# Altium schematic symbol library HE3621A0540.SchLib: 1 symbol
Pins are listed as number, name and electrical type; pins without a type are passive.

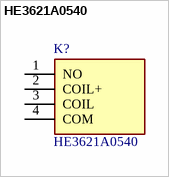
[diagram p0: symbol HE3621A0540]

## HE3621A0540
designator K?
Reed Relay 5VDC 500Ohm 0.5A SPST-NO(20.2x6.05x7.87)mm THT Dry; Manufacturer_Name: LITTELFUSE; Geometry.Height: 7.87mm; Manufacturer_Part_Number: HE3621A0540; Mouser Part Number: 934-HE3621A0540; Mouser Price/Stock: https://www.mouser.co.uk/ProductDetail/Littelfuse/HE3621A0540?qs=X8LBAgEWIKIUBLwFF6DU2A%3D%3D; Arrow Part Number: HE3621A0540; Arrow Price/Stock: https://www.arrow.com/en/products/he3621a0540/littelfuse?utm_currency=USD&region=nac; Datasheet Link: https://m.littelfuse.com/~/media/electronics/datasheets/reed_relays/littelfuse_reed_relays_he3600_datasheet.pdf.pdf
footprint HE3621A0540
pins: 1 NO, 2 COIL+, 3 COIL, 4 COM